# EAGLE library part ADE-1 (library _RoweTel)
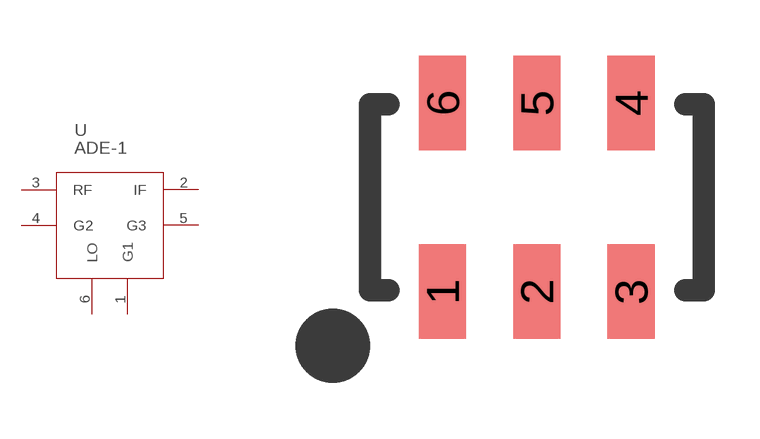
[diagram p79: symbol with the pads of ADE-1; footprint ADE-1]

Designator prefix U

## ADE-1  [ADE-1]
1  G1
2  IF
3  RF
4  G2
5  G3
6  LO

## Footprint ADE-1 (pad centres in mm)
smd 1.27 x 2.54: 1 -2.54,-2.54; 2 0,-2.54; 3 2.54,-2.54; 4 2.54,2.54; 5 0,2.54; 6 -2.54,2.54